# Altium schematic symbol library SGM40567.SchLib: 1 symbol
Pins are listed as number, name and electrical type; pins without a type are passive.

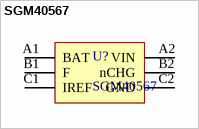
[diagram p0: symbol SGM40567]

## SGM40567
designator U?
充电IC
footprint WLCSP-0.92×1.16-6B (Footprint not found)
pins: A1 BAT, A2 VIN, B1 F, B2 nCHG, C1 IREF, C2 GND